# Altium integrated library Linear Technology PMIC-Switching Reg LTC1174-LTC3901.IntLib: 2647 symbols (part 242 of 310)
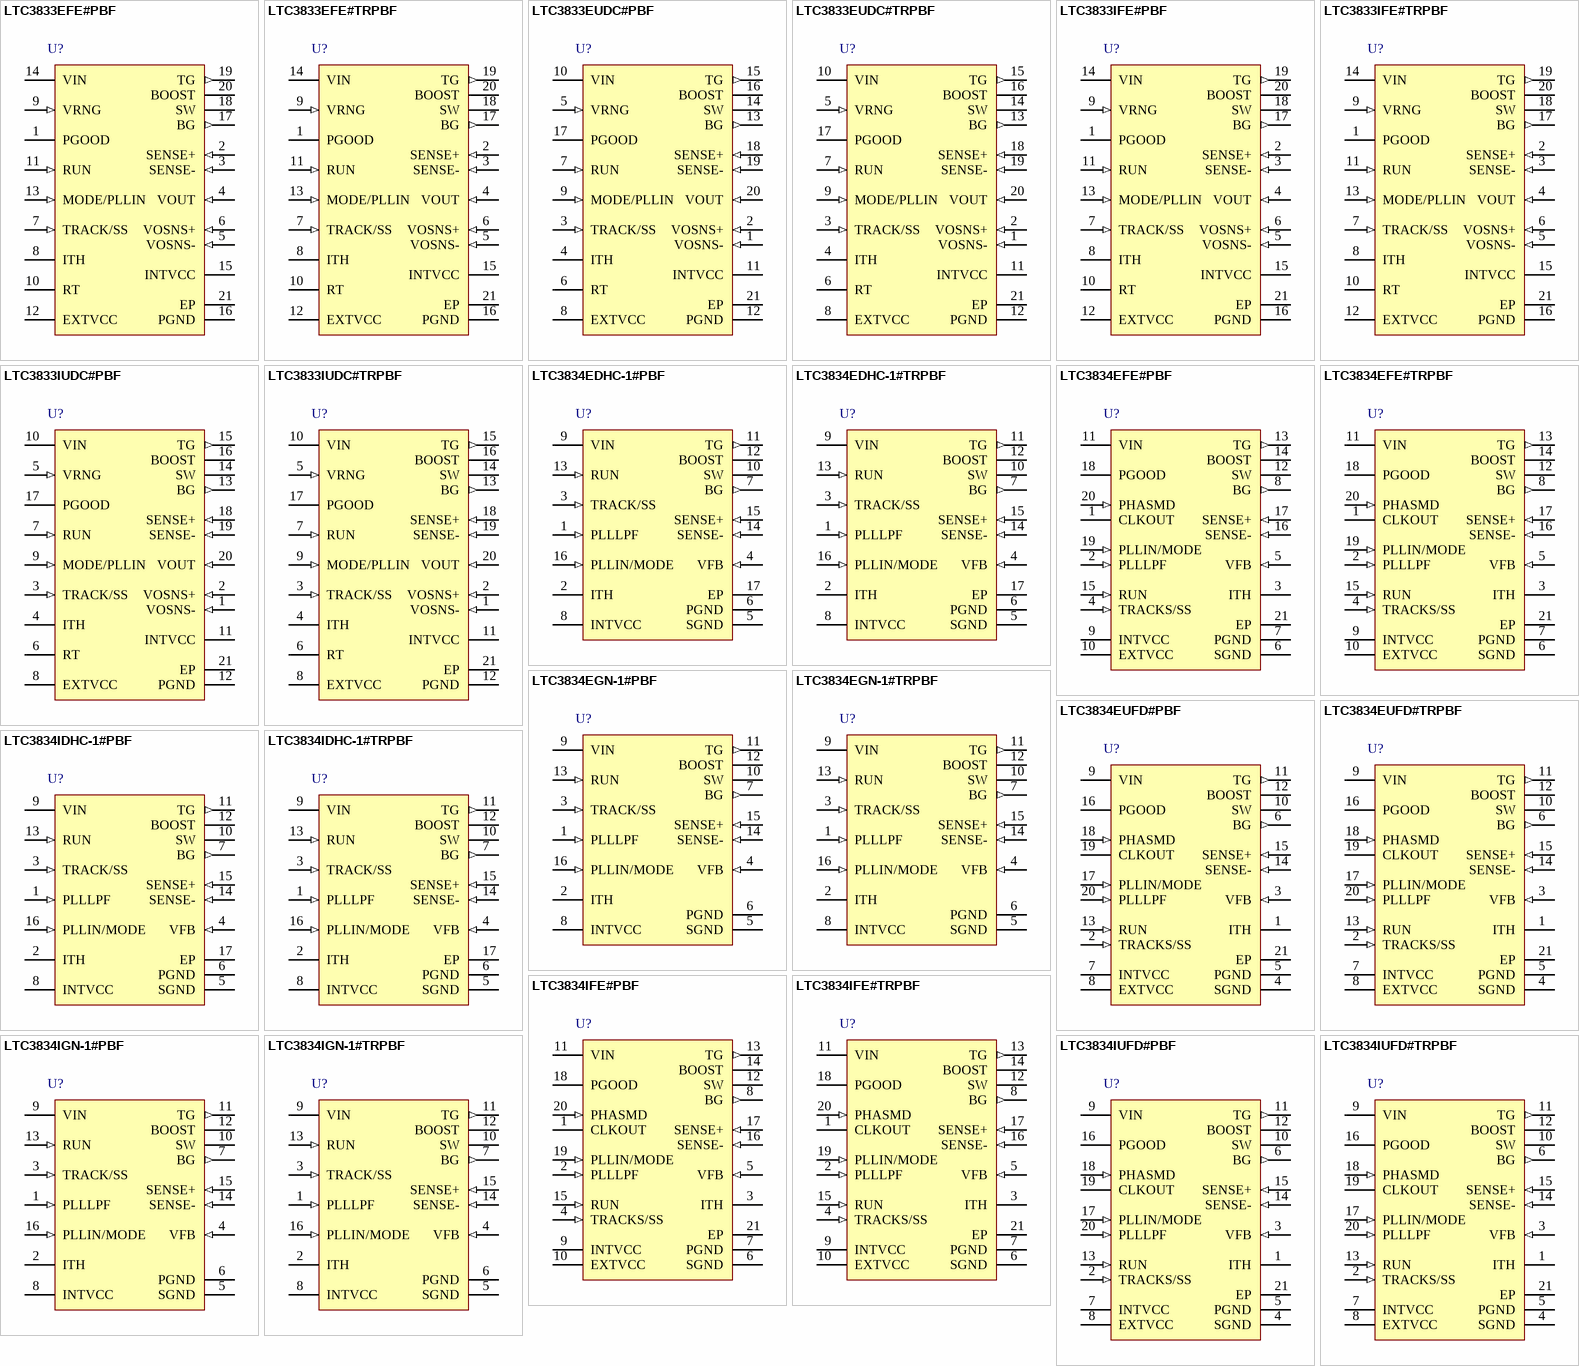
[diagram p259: symbols LTC3833EFE#PBF to LTC3834IUFD#TRPBF]

## LTC3833IFE#TRPBF
designator U?
Fast, Accurate Step-Down DC/DC Controller with Differential Output Sensing, 20-pin SOP (FE-20-EPV-CB), -40 to 125 degC, Pb-Free, Tape and Reel; Manufacturer: Linear Technology; PartNumber: LTC3833IFE#TRPBF; Number of Outputs: 1; PackageReference: FE-20; PackageDescription: 20-Pin Plastic TSSOP, Body 6.5 x 4.4 mm, Pitch 0.65 mm; Supplier 1: Digi-Key; Supplier Part Number 1: LTC3833IFE#TRPBF-ND; RoHS: TRUE
footprint LT-FE-20-EPV-CB_N (SOP, 20-Leads, Body 6.6x4.5mm, Pitch 0.65mm, Thermal Pad 3.86x2.74mm, IPC Medium Density)
footprint LT-FE-20-EPV-CB_L (SOP, 20-Leads, Body 6.6x4.5mm, Pitch 0.65mm, Thermal Pad 3.86x2.74mm, IPC High Density)
footprint LT-FE-20-EPV-CB_M (SOP, 20-Leads, Body 6.6x4.5mm, Pitch 0.65mm, Thermal Pad 3.86x2.74mm, IPC Low Density)
pins: 1 PGOOD (oc) "Power Good Indicator Output. This open-drain logic output is pulled to ground when the output voltage is outside of a +/-7.5% window around the regulation point.", 2 SENSE+ (in) "Differential Current Sensing (+) Input. For RSENSE current sensing, Kelvin (4-wire) connect SENSE+ and SENSE- pins across the sense resistor. For DCR sensing, Kelvin connect SENSE+ and SENSE- pins across the sense filter (See Datasheet)", 3 SENSE- (in) "Differential Current Sensing (-) Input. For RSENSE current sensing, Kelvin (4-wire) connect SENSE+ and SENSE- pins across the sense resistor. For DCR sensing, Kelvin connect SENSE+ and SENSE- pins across the sense filter (See Datasheet)", 4 VOUT (in) "Output voltage sense for adjusting the TG on-time for constant frequency operation. Tying this pin to the local output (instead of remote output) is recommended for most applications. This pin can be programmed as needed for (See Datasheet)", 5 VOSNS- (in) "Differential Output Sensing (-) Input. Connect this pin to the negative terminal of the output capacitor. There is a bias current of 35uA (typical) flowing out of this pin.", 6 VOSNS+ (in) "Differential Output Sensing (+) Input. Connect this pin to the feedback resistor divider between the positive and negative output capacitor terminals. In nominal operation the LTC3833 will regulate the differential output (See Datasheet)", 7 TRACK/SS (in) "External Tracking and Soft-Start Input. The LTC3833 regulates the differential feedback voltage (VOSNS + - VOSNS -) to the smaller of 0.6V or the voltage on the TRACK/SS pin. An internal 1.0uA pull-up current source is (See Datasheet)", 8 ITH "Current Control Voltage and Switching Regulator Compensation Point. The current sense threshold increases with this control voltage which ranges from 0V to 2.4V.", 9 VRNG (in) "Current Sense Voltage Range Input. The maximum allowed sense voltage between SENSE+ and SENSE- is equal to 0.05 • VRNG. If VRNG is tied to SGND, the device operates with a maximum sense voltage of 30mV. If VRNG is tied t(See Datasheet)", 10 RT "Switching Frequency Programming Pin. Connect an external resistor from RT to signal ground to program the switching frequency between 200kHz and 2MHz. An external clock applied to MODE/PLLIN must be within +/-30% of this (See Datasheet)", 11 RUN (in) "Digital Run Control Input. RUN self biases high with an internal 1.3uA pull-up. Forcing RUN below 1.2V turns off TG and BG. Taking RUN below 0.75V shuts down all bias and places the LTC3833 into micropower shutdown mode of (See Datasheet)", 12 EXTVCC (power) "External VCC Input. When EXTVCC exceeds 4.6V, an internal switch connects this pin to INTVCC and shuts down the internal regulator so that the controller and gate drive power is drawn from EXTVCC. EXTVCC should not exceed (See Datasheet)", 13 MODE/PLLIN (in) "External Clock Synchronization Input and/or Forced Continuous Mode Input. When an external clock is applied to this pin, the rising TG signal will be synchronized with the rising edge of the external clock. Additionally, (See Datasheet)", 14 VIN (power) "Main Supply Input. The supply voltage can range from 4.5V to 38V. For increased noise immunity decouple this pin to signal ground with an RC filter. The voltage on this pin is also used to adjust the TG on-time in order to (See Datasheet)", 15 INTVCC (power) "Internal 5.3V Regulator Output. The driver and control circuits are powered from this voltage. Decouple this pin to power ground with a minimum of 4.7uF ceramic capacitor (CVCC). The anode of the Schottky diode, DB, connects (See Datasheet)", 16 PGND (power) "Power Ground Connection. Connect this pin as close as practical to the source of the bottom N-channel power MOSFET, the (-) terminal of CVCC and the (-) terminal of CIN.", 17 BG (out) "Bottom Gate Drive Output. This pin drives the gate of the bottom N-channel power MOSFET between INTVCC and power ground.", 18 SW "Switch Node Connection. The (-) terminal of the bootstrap capacitor, CB, connects to this node. This pin swings from a diode voltage below ground up to VIN.", 19 TG (out) "Top Gate Drive Output. This pin drives the gate of the top N-Channel power MOSFET between VSW and VBOOST .", 20 BOOST "Boosted Driver Supply Connection. The (+) terminal of the bootstrap capacitor, CB, as well as the cathode of the Schottky diode, DB, connects to this node. This node swings from INTVCC - VSCHOTTKY to VIN + INTVCC - VSCHOTTKY.", 21 EP (power) "Signal Ground Connection. The SGND exposed pad must be soldered to the circuit board for electrical contact and rated thermal performance. All small-signal components should be connected to the signal ground. Connect signal (See Datasheet)"

## LTC3833IUDC#PBF
designator U?
Fast, Accurate Step-Down DC/DC Controller with Differential Output Sensing, 20-pin QFN (UDC-20), -40 to 125 degC, Pb-Free; Manufacturer: Linear Technology; PartNumber: LTC3833IUDC#PBF; Number of Outputs: 1; PackageReference: UDC20; PackageDescription: 20-Pin Plastic QFN, Body 3 x 4 mm, Pitch 0.5 mm; Supplier 1: Digi-Key; Supplier Part Number 1: LTC3833IUDC#PBF-ND; RoHS: TRUE
footprint LT-UDC-20_N (QFN, 20-Leads, Body 4.1x3.1mm, Pitch 0.5mm, Thermal Pad 2.65x1.65mm, IPC Medium Density)
footprint LT-UDC-20_L (QFN, 20-Leads, Body 4.1x3.1mm, Pitch 0.5mm, Thermal Pad 2.65x1.65mm, IPC High Density)
footprint LT-UDC-20_M (QFN, 20-Leads, Body 4.1x3.1mm, Pitch 0.5mm, Thermal Pad 2.65x1.65mm, IPC Low Density)
pins: 1 VOSNS- (in) "Differential Output Sensing (-) Input. Connect this pin to the negative terminal of the output capacitor. There is a bias current of 35uA (typical) flowing out of this pin.", 2 VOSNS+ (in) "Differential Output Sensing (+) Input. Connect this pin to the feedback resistor divider between the positive and negative output capacitor terminals. In nominal operation the LTC3833 will regulate the differential output (See Datasheet)", 3 TRACK/SS (in) "External Tracking and Soft-Start Input. The LTC3833 regulates the differential feedback voltage (VOSNS + - VOSNS -) to the smaller of 0.6V or the voltage on the TRACK/SS pin. An internal 1.0uA pull-up current source is (See Datasheet)", 4 ITH "Current Control Voltage and Switching Regulator Compensation Point. The current sense threshold increases with this control voltage which ranges from 0V to 2.4V.", 5 VRNG (in) "Current Sense Voltage Range Input. The maximum allowed sense voltage between SENSE+ and SENSE- is equal to 0.05 • VRNG. If VRNG is tied to SGND, the device operates with a maximum sense voltage of 30mV. If VRNG is tied t(See Datasheet)", 6 RT "Switching Frequency Programming Pin. Connect an external resistor from RT to signal ground to program the switching frequency between 200kHz and 2MHz. An external clock applied to MODE/PLLIN must be within +/-30% of this (See Datasheet)", 7 RUN (in) "Digital Run Control Input. RUN self biases high with an internal 1.3uA pull-up. Forcing RUN below 1.2V turns off TG and BG. Taking RUN below 0.75V shuts down all bias and places the LTC3833 into micropower shutdown mode of (See Datasheet)", 8 EXTVCC (power) "External VCC Input. When EXTVCC exceeds 4.6V, an internal switch connects this pin to INTVCC and shuts down the internal regulator so that the controller and gate drive power is drawn from EXTVCC. EXTVCC should not exceed (See Datasheet)", 9 MODE/PLLIN (in) "External Clock Synchronization Input and/or Forced Continuous Mode Input. When an external clock is applied to this pin, the rising TG signal will be synchronized with the rising edge of the external clock. Additionally, (See Datasheet)", 10 VIN (power) "Main Supply Input. The supply voltage can range from 4.5V to 38V. For increased noise immunity decouple this pin to signal ground with an RC filter. The voltage on this pin is also used to adjust the TG on-time in order to (See Datasheet)", 11 INTVCC (power) "Internal 5.3V Regulator Output. The driver and control circuits are powered from this voltage. Decouple this pin to power ground with a minimum of 4.7uF ceramic capacitor (CVCC). The anode of the Schottky diode, DB, connects (See Datasheet)", 12 PGND (power) "Power Ground Connection. Connect this pin as close as practical to the source of the bottom N-channel power MOSFET, the (-) terminal of CVCC and the (-) terminal of CIN.", 13 BG (out) "Bottom Gate Drive Output. This pin drives the gate of the bottom N-channel power MOSFET between INTVCC and power ground.", 14 SW "Switch Node Connection. The (-) terminal of the bootstrap capacitor, CB, connects to this node. This pin swings from a diode voltage below ground up to VIN.", 15 TG (out) "Top Gate Drive Output. This pin drives the gate of the top N-Channel power MOSFET between VSW and VBOOST .", 16 BOOST "Boosted Driver Supply Connection. The (+) terminal of the bootstrap capacitor, CB, as well as the cathode of the Schottky diode, DB, connects to this node. This node swings from INTVCC - VSCHOTTKY to VIN + INTVCC - VSCHOTTKY.", 17 PGOOD (oc) "Power Good Indicator Output. This open-drain logic output is pulled to ground when the output voltage is outside of a +/-7.5% window around the regulation point.", 18 SENSE+ (in) "Differential Current Sensing (+) Input. For RSENSE current sensing, Kelvin (4-wire) connect SENSE+ and SENSE- pins across the sense resistor. For DCR sensing, Kelvin connect SENSE+ and SENSE- pins across the sense filter (See Datasheet)", 19 SENSE- (in) "Differential Current Sensing (-) Input. For RSENSE current sensing, Kelvin (4-wire) connect SENSE+ and SENSE- pins across the sense resistor. For DCR sensing, Kelvin connect SENSE+ and SENSE- pins across the sense filter (See Datasheet)", 20 VOUT (in) "Output voltage sense for adjusting the TG on-time for constant frequency operation. Tying this pin to the local output (instead of remote output) is recommended for most applications. This pin can be programmed as needed for (See Datasheet)", 21 EP (power) "Signal Ground Connection. The SGND exposed pad must be soldered to the circuit board for electrical contact and rated thermal performance. All small-signal components should be connected to the signal ground. Connect signal (See Datasheet)"

## LTC3833IUDC#TRPBF
designator U?
Fast, Accurate Step-Down DC/DC Controller with Differential Output Sensing, 20-pin QFN (UDC-20), -40 to 125 degC, Pb-Free, Tape and Reel; Manufacturer: Linear Technology; PartNumber: LTC3833IUDC#TRPBF; Number of Outputs: 1; PackageReference: UDC20; PackageDescription: 20-Pin Plastic QFN, Body 3 x 4 mm, Pitch 0.5 mm; Supplier 1: Digi-Key; Supplier Part Number 1: LTC3833IUDC#TRPBF-ND; RoHS: TRUE
footprint LT-UDC-20_N (QFN, 20-Leads, Body 4.1x3.1mm, Pitch 0.5mm, Thermal Pad 2.65x1.65mm, IPC Medium Density)
footprint LT-UDC-20_L (QFN, 20-Leads, Body 4.1x3.1mm, Pitch 0.5mm, Thermal Pad 2.65x1.65mm, IPC High Density)
footprint LT-UDC-20_M (QFN, 20-Leads, Body 4.1x3.1mm, Pitch 0.5mm, Thermal Pad 2.65x1.65mm, IPC Low Density)
pins: 1 VOSNS- (in) "Differential Output Sensing (-) Input. Connect this pin to the negative terminal of the output capacitor. There is a bias current of 35uA (typical) flowing out of this pin.", 2 VOSNS+ (in) "Differential Output Sensing (+) Input. Connect this pin to the feedback resistor divider between the positive and negative output capacitor terminals. In nominal operation the LTC3833 will regulate the differential output (See Datasheet)", 3 TRACK/SS (in) "External Tracking and Soft-Start Input. The LTC3833 regulates the differential feedback voltage (VOSNS + - VOSNS -) to the smaller of 0.6V or the voltage on the TRACK/SS pin. An internal 1.0uA pull-up current source is (See Datasheet)", 4 ITH "Current Control Voltage and Switching Regulator Compensation Point. The current sense threshold increases with this control voltage which ranges from 0V to 2.4V.", 5 VRNG (in) "Current Sense Voltage Range Input. The maximum allowed sense voltage between SENSE+ and SENSE- is equal to 0.05 • VRNG. If VRNG is tied to SGND, the device operates with a maximum sense voltage of 30mV. If VRNG is tied t(See Datasheet)", 6 RT "Switching Frequency Programming Pin. Connect an external resistor from RT to signal ground to program the switching frequency between 200kHz and 2MHz. An external clock applied to MODE/PLLIN must be within +/-30% of this (See Datasheet)", 7 RUN (in) "Digital Run Control Input. RUN self biases high with an internal 1.3uA pull-up. Forcing RUN below 1.2V turns off TG and BG. Taking RUN below 0.75V shuts down all bias and places the LTC3833 into micropower shutdown mode of (See Datasheet)", 8 EXTVCC (power) "External VCC Input. When EXTVCC exceeds 4.6V, an internal switch connects this pin to INTVCC and shuts down the internal regulator so that the controller and gate drive power is drawn from EXTVCC. EXTVCC should not exceed (See Datasheet)", 9 MODE/PLLIN (in) "External Clock Synchronization Input and/or Forced Continuous Mode Input. When an external clock is applied to this pin, the rising TG signal will be synchronized with the rising edge of the external clock. Additionally, (See Datasheet)", 10 VIN (power) "Main Supply Input. The supply voltage can range from 4.5V to 38V. For increased noise immunity decouple this pin to signal ground with an RC filter. The voltage on this pin is also used to adjust the TG on-time in order to (See Datasheet)", 11 INTVCC (power) "Internal 5.3V Regulator Output. The driver and control circuits are powered from this voltage. Decouple this pin to power ground with a minimum of 4.7uF ceramic capacitor (CVCC). The anode of the Schottky diode, DB, connects (See Datasheet)", 12 PGND (power) "Power Ground Connection. Connect this pin as close as practical to the source of the bottom N-channel power MOSFET, the (-) terminal of CVCC and the (-) terminal of CIN.", 13 BG (out) "Bottom Gate Drive Output. This pin drives the gate of the bottom N-channel power MOSFET between INTVCC and power ground.", 14 SW "Switch Node Connection. The (-) terminal of the bootstrap capacitor, CB, connects to this node. This pin swings from a diode voltage below ground up to VIN.", 15 TG (out) "Top Gate Drive Output. This pin drives the gate of the top N-Channel power MOSFET between VSW and VBOOST .", 16 BOOST "Boosted Driver Supply Connection. The (+) terminal of the bootstrap capacitor, CB, as well as the cathode of the Schottky diode, DB, connects to this node. This node swings from INTVCC - VSCHOTTKY to VIN + INTVCC - VSCHOTTKY.", 17 PGOOD (oc) "Power Good Indicator Output. This open-drain logic output is pulled to ground when the output voltage is outside of a +/-7.5% window around the regulation point.", 18 SENSE+ (in) "Differential Current Sensing (+) Input. For RSENSE current sensing, Kelvin (4-wire) connect SENSE+ and SENSE- pins across the sense resistor. For DCR sensing, Kelvin connect SENSE+ and SENSE- pins across the sense filter (See Datasheet)", 19 SENSE- (in) "Differential Current Sensing (-) Input. For RSENSE current sensing, Kelvin (4-wire) connect SENSE+ and SENSE- pins across the sense resistor. For DCR sensing, Kelvin connect SENSE+ and SENSE- pins across the sense filter (See Datasheet)", 20 VOUT (in) "Output voltage sense for adjusting the TG on-time for constant frequency operation. Tying this pin to the local output (instead of remote output) is recommended for most applications. This pin can be programmed as needed for (See Datasheet)", 21 EP (power) "Signal Ground Connection. The SGND exposed pad must be soldered to the circuit board for electrical contact and rated thermal performance. All small-signal components should be connected to the signal ground. Connect signal (See Datasheet)"

## LTC3834EDHC-1#PBF
designator U?
30 uA IQ Synchronous Step-Down Controller, 16-pin SON (DHC-16), -40 to 85 degC, Pb-Free; Manufacturer: Linear Technology; PartNumber: LTC3834EDHC-1#PBF; Number of Outputs: 1; PackageReference: DHC-16; PackageDescription: 16-Pin Plastic DFN, Body 5 x 3 mm, Pitch 0.5 mm; Supplier 1: Digi-Key; Supplier Part Number 1: LTC3834EDHC-1#PBF-ND; RoHS: TRUE; Code_JEDEC: MO-229
footprint LT-DHC-16_V (SON, 16-Leads, Body 5x3mm, Pitch 0.5mm, Thermal Pad 4.4X1.65mm)
pins: 1 PLLLPF (in) "The phase-locked loop’s lowpass filter is tied to this pin when synchronizing to an external clock. Alternatively, tie this pin to GND, INTVCC or leave floating to select 250kHz, 530kHz or 400kHz switching frequency.", 2 ITH "Error Amplifier Outputs and Switching Regulator Compensation Points. The current comparator trip point increases with this control voltage.", 3 TRACK/SS (in) "External Tracking and Soft-Start Input.", 4 VFB (in) "Receives the remotely sensed feedback voltage from an external resistive divider across the output.", 5 SGND (power) "Small Signal Ground. Must be routed separately from high current grounds to the common (-) terminals of the input capacitor.", 6 PGND (power) "Driver Power Ground. Connects to the source of bottom (synchronous) N-channel MOSFET, anode of the Schottky rectifier and the (-) terminal of CIN.", 7 BG (out) "High Current Gate Drive for Bottom (Synchronous) N-Channel MOSFET. Voltage swing at this pin is from ground to INTVCC.", 8 INTVCC (power) "Output of the Internal Linear Low Dropout Regulator. The driver and control circuits are powered from this voltage source. Must be decoupled to power ground with a minimum of 4.7uF tantalum or ceramic capacitor.", 9 VIN (power) "Main Supply Pin. A bypass capacitor should be tied between this pin and the signal ground pin.", 10 SW "Switch Node Connections to Inductor. Voltage swing at this pin is from a Schottky diode (external) voltage drop below ground to VIN.", 11 TG (out) "High Current Gate Drive for Top Nchannel MOSFET. These are the outputs of floating drivers with a voltage swing equal to INTVCC - 0.5V superimposed on the switch node voltage SW.", 12 BOOST "Bootstrapped Supply to the Top Side Floating Driver. A capacitor is connected between the BOOST and SW pins and a Schottky diode is tied between the BOOST and INTVCC pins. Voltage swing at the BOOST pin is from INTVCC to (See Datasheet)", 13 RUN (in) "Digital Run Control Input for Controller.", 14 SENSE- (in) "The (-) Input to the Differential Current Comparator.", 15 SENSE+ (in) "The (+) Input to the Differential Current Comparator. The ITH pin voltage and controlled offsets between the SENSE- and SENSE+ pins in conjunction with RSENSE set the current trip threshold.", 16 PLLIN/MODE (in) "External Synchronization Input to Phase Detector and Forced Continuous Control Input. When an external clock is applied to this pin, the phase-locked loop will force the rising TG signal to be synchronized with the rising (See Datasheet)", 17 EP (power) "SGND. Must be soldered to PCB."

## LTC3834EDHC-1#TRPBF
designator U?
30 uA IQ Synchronous Step-Down Controller, 16-pin SON (DHC-16), -40 to 85 degC, Pb-Free, Tape and Reel; Manufacturer: Linear Technology; PartNumber: LTC3834EDHC-1#TRPBF; Number of Outputs: 1; PackageReference: DHC-16; PackageDescription: 16-Pin Plastic DFN, Body 5 x 3 mm, Pitch 0.5 mm; Supplier 1: Digi-Key; Supplier Part Number 1: LTC3834EDHC-1#TRPBF-ND; RoHS: TRUE; Code_JEDEC: MO-229
footprint LT-DHC-16_V (SON, 16-Leads, Body 5x3mm, Pitch 0.5mm, Thermal Pad 4.4X1.65mm)
pins: 1 PLLLPF (in) "The phase-locked loop’s lowpass filter is tied to this pin when synchronizing to an external clock. Alternatively, tie this pin to GND, INTVCC or leave floating to select 250kHz, 530kHz or 400kHz switching frequency.", 2 ITH "Error Amplifier Outputs and Switching Regulator Compensation Points. The current comparator trip point increases with this control voltage.", 3 TRACK/SS (in) "External Tracking and Soft-Start Input.", 4 VFB (in) "Receives the remotely sensed feedback voltage from an external resistive divider across the output.", 5 SGND (power) "Small Signal Ground. Must be routed separately from high current grounds to the common (-) terminals of the input capacitor.", 6 PGND (power) "Driver Power Ground. Connects to the source of bottom (synchronous) N-channel MOSFET, anode of the Schottky rectifier and the (-) terminal of CIN.", 7 BG (out) "High Current Gate Drive for Bottom (Synchronous) N-Channel MOSFET. Voltage swing at this pin is from ground to INTVCC.", 8 INTVCC (power) "Output of the Internal Linear Low Dropout Regulator. The driver and control circuits are powered from this voltage source. Must be decoupled to power ground with a minimum of 4.7uF tantalum or ceramic capacitor.", 9 VIN (power) "Main Supply Pin. A bypass capacitor should be tied between this pin and the signal ground pin.", 10 SW "Switch Node Connections to Inductor. Voltage swing at this pin is from a Schottky diode (external) voltage drop below ground to VIN.", 11 TG (out) "High Current Gate Drive for Top Nchannel MOSFET. These are the outputs of floating drivers with a voltage swing equal to INTVCC - 0.5V superimposed on the switch node voltage SW.", 12 BOOST "Bootstrapped Supply to the Top Side Floating Driver. A capacitor is connected between the BOOST and SW pins and a Schottky diode is tied between the BOOST and INTVCC pins. Voltage swing at the BOOST pin is from INTVCC to (See Datasheet)", 13 RUN (in) "Digital Run Control Input for Controller.", 14 SENSE- (in) "The (-) Input to the Differential Current Comparator.", 15 SENSE+ (in) "The (+) Input to the Differential Current Comparator. The ITH pin voltage and controlled offsets between the SENSE- and SENSE+ pins in conjunction with RSENSE set the current trip threshold.", 16 PLLIN/MODE (in) "External Synchronization Input to Phase Detector and Forced Continuous Control Input. When an external clock is applied to this pin, the phase-locked loop will force the rising TG signal to be synchronized with the rising (See Datasheet)", 17 EP (power) "SGND. Must be soldered to PCB."

## LTC3834EFE#PBF
designator U?
30 uA IQ Synchronous Step-Down Controller, 20-pin SOP (FE-20-EPV-CB), -40 to 85 degC, Pb-Free; Manufacturer: Linear Technology; PartNumber: LTC3834EFE#PBF; Number of Outputs: 1; PackageReference: FE-20; PackageDescription: 20-Pin Plastic TSSOP, Body 6.5 x 4.4 mm, Pitch 0.65 mm; Supplier 1: Digi-Key; Supplier Part Number 1: LTC3834EFE#PBF-ND; RoHS: TRUE
footprint LT-FE-20-EPV-CB_N (SOP, 20-Leads, Body 6.6x4.5mm, Pitch 0.65mm, Thermal Pad 3.86x2.74mm, IPC Medium Density)
footprint LT-FE-20-EPV-CB_L (SOP, 20-Leads, Body 6.6x4.5mm, Pitch 0.65mm, Thermal Pad 3.86x2.74mm, IPC High Density)
footprint LT-FE-20-EPV-CB_M (SOP, 20-Leads, Body 6.6x4.5mm, Pitch 0.65mm, Thermal Pad 3.86x2.74mm, IPC Low Density)
pins: 1 CLKOUT (oc) "Open-Drain Output Clock Signal available to daisy-chain other controller ICs for additional MOSFET driver stages/phases.", 2 PLLLPF (in) "The phase-locked loop’s lowpass filter is tied to this pin when synchronizing to an external clock. Alternatively, tie this pin to GND, VIN or leave floating to select 250kHz, 530kHz or 400kHz switching frequency.", 3 ITH "Error Amplifier Outputs and Switching Regulator Compensation Points. The current comparator trip point increases with this control voltage.", 4 TRACKS/SS (in) "External Tracking and Soft-Start Input.", 5 VFB (in) "Receives the remotely sensed feedback voltage from an external resistive divider across the output.", 6 SGND (power) "Small-Signal Ground. Must be routed separately from high current grounds to the common (-) terminals of the input capacitor.", 7 PGND (power) "Driver Power Ground. Connects to the source of bottom (synchronous) N-channel MOSFET, anode of the Schottky rectifi er and the (-) terminal of CIN.", 8 BG (out) "High Current Gate Drive for Bottom (Synchronous) N-Channel MOSFET. Voltage swing at this pin is from ground to INTVCC.", 9 INTVCC (power) "Output of the Internal Linear Low Dropout Regulator.", 10 EXTVCC (power) "External Power Input to an Internal LDO Connected to INTVCC. This LDO supplies VCC power, bypassing the internal LDO powered from VIN whenever EXTVCC is higher than 4.7V. See EXTVCC Connection in the Applications Information (See Datasheet)", 11 VIN (power) "Main Supply Pin. A bypass capacitor should be tied between this pin and the signal ground pin.", 12 SW "Switch Node Connections to Inductor. Voltage swing at this pin is from a Schottky diode (external) voltage drop below ground to VIN.", 13 TG (out) "High Current Gate Drive for Top N-Channel MOSFET. These are the outputs of floating drivers with a voltage swing equal to INTVCC - 0.5V superimposed on the switch node voltage SW.", 14 BOOST "Bootstrapped Supply to the Topside Floating Driver. A capacitor is connected between the BOOST and SW pins and a Schottky diode is tied between the BOOST and INTVCC pins. Voltage swing at the BOOST pin is from INTVCC to (VIN (See Datasheet)", 15 RUN (in) "Digital Run Control Input for Controller.", 16 SENSE- (in) "The (-) Input to the Differential Current Comparator.", 17 SENSE+ (in) "The (+) Input to the Differential Current Comparator. The ITH pin voltage and controlled offsets between the SENSE- and SENSE+ pins in conjunction with RSENSE set the current trip threshold.", 18 PGOOD (oc) "Open-Drain Logic Output. PGOOD is pulled to ground when the voltage on the VFB pin is not within +/-10% of its set point.", 19 PLLIN/MODE (in) "External Synchronization Input to Phase Detector and Forced Continuous Control Input.", 20 PHASMD (in) "Control Input to Phase Selector which determines the phase relationships between TG and the CLKOUT signal.", 21 EP (power)

## LTC3834EFE#TRPBF
designator U?
30 uA IQ Synchronous Step-Down Controller, 20-pin SOP (FE-20-EPV-CB), -40 to 85 degC, Pb-Free, Tape and Reel; Manufacturer: Linear Technology; PartNumber: LTC3834EFE#TRPBF; Number of Outputs: 1; PackageReference: FE-20; PackageDescription: 20-Pin Plastic TSSOP, Body 6.5 x 4.4 mm, Pitch 0.65 mm; Supplier 1: Digi-Key; Supplier Part Number 1: LTC3834EFE#TRPBF-ND; RoHS: TRUE
footprint LT-FE-20-EPV-CB_N (SOP, 20-Leads, Body 6.6x4.5mm, Pitch 0.65mm, Thermal Pad 3.86x2.74mm, IPC Medium Density)
footprint LT-FE-20-EPV-CB_L (SOP, 20-Leads, Body 6.6x4.5mm, Pitch 0.65mm, Thermal Pad 3.86x2.74mm, IPC High Density)
footprint LT-FE-20-EPV-CB_M (SOP, 20-Leads, Body 6.6x4.5mm, Pitch 0.65mm, Thermal Pad 3.86x2.74mm, IPC Low Density)
pins: 1 CLKOUT (oc) "Open-Drain Output Clock Signal available to daisy-chain other controller ICs for additional MOSFET driver stages/phases.", 2 PLLLPF (in) "The phase-locked loop’s lowpass filter is tied to this pin when synchronizing to an external clock. Alternatively, tie this pin to GND, VIN or leave floating to select 250kHz, 530kHz or 400kHz switching frequency.", 3 ITH "Error Amplifier Outputs and Switching Regulator Compensation Points. The current comparator trip point increases with this control voltage.", 4 TRACKS/SS (in) "External Tracking and Soft-Start Input.", 5 VFB (in) "Receives the remotely sensed feedback voltage from an external resistive divider across the output.", 6 SGND (power) "Small-Signal Ground. Must be routed separately from high current grounds to the common (-) terminals of the input capacitor.", 7 PGND (power) "Driver Power Ground. Connects to the source of bottom (synchronous) N-channel MOSFET, anode of the Schottky rectifi er and the (-) terminal of CIN.", 8 BG (out) "High Current Gate Drive for Bottom (Synchronous) N-Channel MOSFET. Voltage swing at this pin is from ground to INTVCC.", 9 INTVCC (power) "Output of the Internal Linear Low Dropout Regulator.", 10 EXTVCC (power) "External Power Input to an Internal LDO Connected to INTVCC. This LDO supplies VCC power, bypassing the internal LDO powered from VIN whenever EXTVCC is higher than 4.7V. See EXTVCC Connection in the Applications Information (See Datasheet)", 11 VIN (power) "Main Supply Pin. A bypass capacitor should be tied between this pin and the signal ground pin.", 12 SW "Switch Node Connections to Inductor. Voltage swing at this pin is from a Schottky diode (external) voltage drop below ground to VIN.", 13 TG (out) "High Current Gate Drive for Top N-Channel MOSFET. These are the outputs of floating drivers with a voltage swing equal to INTVCC - 0.5V superimposed on the switch node voltage SW.", 14 BOOST "Bootstrapped Supply to the Topside Floating Driver. A capacitor is connected between the BOOST and SW pins and a Schottky diode is tied between the BOOST and INTVCC pins. Voltage swing at the BOOST pin is from INTVCC to (VIN (See Datasheet)", 15 RUN (in) "Digital Run Control Input for Controller.", 16 SENSE- (in) "The (-) Input to the Differential Current Comparator.", 17 SENSE+ (in) "The (+) Input to the Differential Current Comparator. The ITH pin voltage and controlled offsets between the SENSE- and SENSE+ pins in conjunction with RSENSE set the current trip threshold.", 18 PGOOD (oc) "Open-Drain Logic Output. PGOOD is pulled to ground when the voltage on the VFB pin is not within +/-10% of its set point.", 19 PLLIN/MODE (in) "External Synchronization Input to Phase Detector and Forced Continuous Control Input.", 20 PHASMD (in) "Control Input to Phase Selector which determines the phase relationships between TG and the CLKOUT signal.", 21 EP (power)

## LTC3834EGN-1#PBF
designator U?
30 uA IQ Synchronous Step-Down Controller, 16-pin SOP (GN-16), -40 to 85 degC, Pb-Free; Manufacturer: Linear Technology; PartNumber: LTC3834EGN-1#PBF; Number of Outputs: 1; PackageReference: GN-16; PackageDescription: 16-Pin Plastic SSOP, Body 4.9 x 3.9 mm, Pitch 0.635 mm; Supplier 1: Digi-Key; Supplier Part Number 1: LTC3834EGN-1#PBF-ND; RoHS: TRUE
footprint LT-GN-16_N (SOP, 16-Leads, Body 5x4mm, Pitch 0.635mm, IPC Medium Density)
footprint LT-GN-16_L (SOP, 16-Leads, Body 5x4mm, Pitch 0.635mm, IPC High Density)
footprint LT-GN-16_M (SOP, 16-Leads, Body 5x4mm, Pitch 0.635mm, IPC Low Density)
pins: 1 PLLLPF (in), 2 ITH, 3 TRACK/SS (in), 4 VFB (in) "Receives the remotely sensed feedback voltage from an external resistive divider across the output.", 5 SGND (power) "Small-Signal Ground. Must be routed separately from high current grounds to the common (-) terminals of the input capacitor", 6 PGND (power), 7 BG (out) "High Current Gate Drive for Bottom (Synchronous) N-Channel MOSFET. Voltage swing at this pin is from ground to INTVCC.", 8 INTVCC (power), 9 VIN (power) "Main Supply Pin. A bypass capacitor should be tied between this pin and the signal ground pin.", 10 SW "Switch Node Connections to Inductor. Voltage swing at this pin is from a Schottky diode (external) voltage drop below ground to VIN", 11 TG (out), 12 BOOST "Bootstrapped Supply to the Topside Floating Driver. A capacitor is connected between the BOOST and SW pins and a Schottky diode is tied between the BOOST and INTVCC pins. Voltage swing at the BOOST pin is from INTVCC to (VIN (See Datasheet)", 13 RUN (in), 14 SENSE- (in) "The (-) Input to the Differential Current Comparator.", 15 SENSE+ (in), 16 PLLIN/MODE (in)

## LTC3834EGN-1#TRPBF
designator U?
30 uA IQ Synchronous Step-Down Controller, 16-pin SOP (GN-16), -40 to 85 degC, Pb-Free, Tape and Reel; Manufacturer: Linear Technology; PartNumber: LTC3834EGN-1#TRPBF; Number of Outputs: 1; PackageReference: GN-16; PackageDescription: 16-Pin Plastic SSOP, Body 4.9 x 3.9 mm, Pitch 0.635 mm; Supplier 1: Digi-Key; Supplier Part Number 1: LTC3834EGN-1#TRPBF-ND; RoHS: TRUE
footprint LT-GN-16_N (SOP, 16-Leads, Body 5x4mm, Pitch 0.635mm, IPC Medium Density)
footprint LT-GN-16_L (SOP, 16-Leads, Body 5x4mm, Pitch 0.635mm, IPC High Density)
footprint LT-GN-16_M (SOP, 16-Leads, Body 5x4mm, Pitch 0.635mm, IPC Low Density)
pins: 1 PLLLPF (in), 2 ITH, 3 TRACK/SS (in), 4 VFB (in) "Receives the remotely sensed feedback voltage from an external resistive divider across the output.", 5 SGND (power) "Small-Signal Ground. Must be routed separately from high current grounds to the common (-) terminals of the input capacitor", 6 PGND (power), 7 BG (out) "High Current Gate Drive for Bottom (Synchronous) N-Channel MOSFET. Voltage swing at this pin is from ground to INTVCC.", 8 INTVCC (power), 9 VIN (power) "Main Supply Pin. A bypass capacitor should be tied between this pin and the signal ground pin.", 10 SW "Switch Node Connections to Inductor. Voltage swing at this pin is from a Schottky diode (external) voltage drop below ground to VIN", 11 TG (out), 12 BOOST "Bootstrapped Supply to the Topside Floating Driver. A capacitor is connected between the BOOST and SW pins and a Schottky diode is tied between the BOOST and INTVCC pins. Voltage swing at the BOOST pin is from INTVCC to (VIN (See Datasheet)", 13 RUN (in), 14 SENSE- (in) "The (-) Input to the Differential Current Comparator.", 15 SENSE+ (in), 16 PLLIN/MODE (in)

## LTC3834EUFD#PBF
designator U?
30 uA IQ Synchronous Step-Down Controller, 20-pin QFN (UFD-20), -40 to 85 degC, Pb-Free; Manufacturer: Linear Technology; PartNumber: LTC3834EUFD#PBF; Number of Outputs: 1; PackageReference: UFD-20; PackageDescription: 20-Pin Plastic QFN, Body 5 x 4 mm, Pitch 0.5 mm; Supplier 1: Digi-Key; Supplier Part Number 1: LTC3834EUFD#PBF-ND; RoHS: TRUE; Code_JEDEC: MO-220
footprint LT-UFD-20_N (QFN, 20-Leads, Body 5.1x4.1mm, Pitch 0.5mm, Thermal Pad 2.65x3.65mm, IPC Medium Density)
footprint LT-UFD-20_L (QFN, 20-Leads, Body 5.1x4.1mm, Pitch 0.5mm, Thermal Pad 2.65x3.65mm, IPC High Density)
footprint LT-UFD-20_M (QFN, 20-Leads, Body 5.1x4.1mm, Pitch 0.5mm, Thermal Pad 2.65x3.65mm, IPC Low Density)
pins: 1 ITH "Error Amplifier Outputs and Switching Regulator Compensation Points. The current comparator trip point increases with this control voltage.", 2 TRACKS/SS (in) "External Tracking and Soft-Start Input.", 3 VFB (in) "Receives the remotely sensed feedback voltage from an external resistive divider across the output.", 4 SGND (power) "Small-Signal Ground. Must be routed separately from high current grounds to the common (-) terminals of the input capacitor.", 5 PGND (power) "Driver Power Ground. Connects to the source of bottom (synchronous) N-channel MOSFET, anode of the Schottky rectifier and the (-) terminal of CIN.", 6 BG (out) "High Current Gate Drive for Bottom (Synchronous) N-Channel MOSFET. Voltage swing at this pin is from ground to INTVCC.", 7 INTVCC (power) "Output of the Internal Linear Low Dropout Regulator.", 8 EXTVCC (power) "External Power Input to an Internal LDO Connected to INTVCC. This LDO supplies VCC power, bypassing the internal LDO powered from VIN whenever EXTVCC is higher than 4.7V. See EXTVCC Connection in the Applications Information (See Datasheet)", 9 VIN (power) "Main Supply Pin. A bypass capacitor should be tied between this pin and the signal ground pin.", 10 SW "Switch Node Connections to Inductor. Voltage swing at this pin is from a Schottky diode (external) voltage drop below ground to VIN.", 11 TG (out) "High Current Gate Drive for Top N-Channel MOSFET. These are the outputs of floating drivers with a voltage swing equal to INTVCC - 0.5V superimposed on the switch node voltage SW.", 12 BOOST "Bootstrapped Supply to the Topside Floating Driver. A capacitor is connected between the BOOST and SW pins and a Schottky diode is tied between the BOOST and INTVCC pins. Voltage swing at the BOOST pin is from INTVCC to (VIN (See Datasheet)", 13 RUN (in) "Digital Run Control Input for Controller.", 14 SENSE- (in) "The (-) Input to the Differential Current Comparator.", 15 SENSE+ (in) "The (+) Input to the Differential Current Comparator. The ITH pin voltage and controlled offsets between the SENSE- and SENSE+ pins in conjunction with RSENSE set the current trip threshold.", 16 PGOOD (oc) "Open-Drain Logic Output. PGOOD is pulled to ground when the voltage on the VFB pin is not within +/-10% of its set point.", 17 PLLIN/MODE (in) "External Synchronization Input to Phase Detector and Forced Continuous Control Input.", 18 PHASMD (in) "Control Input to Phase Selector which determines the phase relationships between TG and the CLKOUT signal.", 19 CLKOUT (oc) "Open-Drain Output Clock Signal available to daisy-chain other controller ICs for additional MOSFET driver stages/phases.", 20 PLLLPF (in) "The phase-locked loop’s lowpass filter is tied to this pin when synchronizing to an external clock. Alternatively, tie this pin to GND, VIN or leave floating to select 250kHz, 530kHz or 400kHz switching frequency.", 21 EP (power)

## LTC3834EUFD#TRPBF
designator U?
30 uA IQ Synchronous Step-Down Controller, 20-pin QFN (UFD-20), -40 to 85 degC, Pb-Free, Tape and Reel; Manufacturer: Linear Technology; PartNumber: LTC3834EUFD#TRPBF; Number of Outputs: 1; PackageReference: UFD-20; PackageDescription: 20-Pin Plastic QFN, Body 5 x 4 mm, Pitch 0.5 mm; Supplier 1: Digi-Key; Supplier Part Number 1: LTC3834EUFD#TRPBF-ND; RoHS: TRUE; Code_JEDEC: MO-220
footprint LT-UFD-20_N (QFN, 20-Leads, Body 5.1x4.1mm, Pitch 0.5mm, Thermal Pad 2.65x3.65mm, IPC Medium Density)
footprint LT-UFD-20_L (QFN, 20-Leads, Body 5.1x4.1mm, Pitch 0.5mm, Thermal Pad 2.65x3.65mm, IPC High Density)
footprint LT-UFD-20_M (QFN, 20-Leads, Body 5.1x4.1mm, Pitch 0.5mm, Thermal Pad 2.65x3.65mm, IPC Low Density)
pins: 1 ITH "Error Amplifier Outputs and Switching Regulator Compensation Points. The current comparator trip point increases with this control voltage.", 2 TRACKS/SS (in) "External Tracking and Soft-Start Input.", 3 VFB (in) "Receives the remotely sensed feedback voltage from an external resistive divider across the output.", 4 SGND (power) "Small-Signal Ground. Must be routed separately from high current grounds to the common (-) terminals of the input capacitor.", 5 PGND (power) "Driver Power Ground. Connects to the source of bottom (synchronous) N-channel MOSFET, anode of the Schottky rectifier and the (-) terminal of CIN.", 6 BG (out) "High Current Gate Drive for Bottom (Synchronous) N-Channel MOSFET. Voltage swing at this pin is from ground to INTVCC.", 7 INTVCC (power) "Output of the Internal Linear Low Dropout Regulator.", 8 EXTVCC (power) "External Power Input to an Internal LDO Connected to INTVCC. This LDO supplies VCC power, bypassing the internal LDO powered from VIN whenever EXTVCC is higher than 4.7V. See EXTVCC Connection in the Applications Information (See Datasheet)", 9 VIN (power) "Main Supply Pin. A bypass capacitor should be tied between this pin and the signal ground pin.", 10 SW "Switch Node Connections to Inductor. Voltage swing at this pin is from a Schottky diode (external) voltage drop below ground to VIN.", 11 TG (out) "High Current Gate Drive for Top N-Channel MOSFET. These are the outputs of floating drivers with a voltage swing equal to INTVCC - 0.5V superimposed on the switch node voltage SW.", 12 BOOST "Bootstrapped Supply to the Topside Floating Driver. A capacitor is connected between the BOOST and SW pins and a Schottky diode is tied between the BOOST and INTVCC pins. Voltage swing at the BOOST pin is from INTVCC to (VIN (See Datasheet)", 13 RUN (in) "Digital Run Control Input for Controller.", 14 SENSE- (in) "The (-) Input to the Differential Current Comparator.", 15 SENSE+ (in) "The (+) Input to the Differential Current Comparator. The ITH pin voltage and controlled offsets between the SENSE- and SENSE+ pins in conjunction with RSENSE set the current trip threshold.", 16 PGOOD (oc) "Open-Drain Logic Output. PGOOD is pulled to ground when the voltage on the VFB pin is not within +/-10% of its set point.", 17 PLLIN/MODE (in) "External Synchronization Input to Phase Detector and Forced Continuous Control Input.", 18 PHASMD (in) "Control Input to Phase Selector which determines the phase relationships between TG and the CLKOUT signal.", 19 CLKOUT (oc) "Open-Drain Output Clock Signal available to daisy-chain other controller ICs for additional MOSFET driver stages/phases.", 20 PLLLPF (in) "The phase-locked loop’s lowpass filter is tied to this pin when synchronizing to an external clock. Alternatively, tie this pin to GND, VIN or leave floating to select 250kHz, 530kHz or 400kHz switching frequency.", 21 EP (power)

## LTC3834IDHC-1#PBF
designator U?
30 uA IQ Synchronous Step-Down Controller, 16-pin SON (DHC-16), -40 to 85 degC, Pb-Free; Manufacturer: Linear Technology; PartNumber: LTC3834IDHC-1#PBF; Number of Outputs: 1; PackageReference: DHC-16; PackageDescription: 16-Pin Plastic DFN, Body 5 x 3 mm, Pitch 0.5 mm; Supplier 1: Digi-Key; Supplier Part Number 1: LTC3834IDHC-1#PBF-ND; RoHS: TRUE; Code_JEDEC: MO-229
footprint LT-DHC-16_V (SON, 16-Leads, Body 5x3mm, Pitch 0.5mm, Thermal Pad 4.4X1.65mm)
pins: 1 PLLLPF (in) "The phase-locked loop’s lowpass filter is tied to this pin when synchronizing to an external clock. Alternatively, tie this pin to GND, INTVCC or leave floating to select 250kHz, 530kHz or 400kHz switching frequency.", 2 ITH "Error Amplifier Outputs and Switching Regulator Compensation Points. The current comparator trip point increases with this control voltage.", 3 TRACK/SS (in) "External Tracking and Soft-Start Input.", 4 VFB (in) "Receives the remotely sensed feedback voltage from an external resistive divider across the output.", 5 SGND (power) "Small Signal Ground. Must be routed separately from high current grounds to the common (-) terminals of the input capacitor.", 6 PGND (power) "Driver Power Ground. Connects to the source of bottom (synchronous) N-channel MOSFET, anode of the Schottky rectifier and the (-) terminal of CIN.", 7 BG (out) "High Current Gate Drive for Bottom (Synchronous) N-Channel MOSFET. Voltage swing at this pin is from ground to INTVCC.", 8 INTVCC (power) "Output of the Internal Linear Low Dropout Regulator. The driver and control circuits are powered from this voltage source. Must be decoupled to power ground with a minimum of 4.7uF tantalum or ceramic capacitor.", 9 VIN (power) "Main Supply Pin. A bypass capacitor should be tied between this pin and the signal ground pin.", 10 SW "Switch Node Connections to Inductor. Voltage swing at this pin is from a Schottky diode (external) voltage drop below ground to VIN.", 11 TG (out) "High Current Gate Drive for Top Nchannel MOSFET. These are the outputs of floating drivers with a voltage swing equal to INTVCC - 0.5V superimposed on the switch node voltage SW.", 12 BOOST "Bootstrapped Supply to the Top Side Floating Driver. A capacitor is connected between the BOOST and SW pins and a Schottky diode is tied between the BOOST and INTVCC pins. Voltage swing at the BOOST pin is from INTVCC to (See Datasheet)", 13 RUN (in) "Digital Run Control Input for Controller.", 14 SENSE- (in) "The (-) Input to the Differential Current Comparator.", 15 SENSE+ (in) "The (+) Input to the Differential Current Comparator. The ITH pin voltage and controlled offsets between the SENSE- and SENSE+ pins in conjunction with RSENSE set the current trip threshold.", 16 PLLIN/MODE (in) "External Synchronization Input to Phase Detector and Forced Continuous Control Input. When an external clock is applied to this pin, the phase-locked loop will force the rising TG signal to be synchronized with the rising (See Datasheet)", 17 EP (power) "SGND. Must be soldered to PCB."

## LTC3834IDHC-1#TRPBF
designator U?
30 uA IQ Synchronous Step-Down Controller, 16-pin SON (DHC-16), -40 to 85 degC, Pb-Free, Tape and Reel; Manufacturer: Linear Technology; PartNumber: LTC3834IDHC-1#TRPBF; Number of Outputs: 1; PackageReference: DHC-16; PackageDescription: 16-Pin Plastic DFN, Body 5 x 3 mm, Pitch 0.5 mm; Supplier 1: Digi-Key; Supplier Part Number 1: LTC3834IDHC-1#TRPBF-ND; RoHS: TRUE; Code_JEDEC: MO-229
footprint LT-DHC-16_V (SON, 16-Leads, Body 5x3mm, Pitch 0.5mm, Thermal Pad 4.4X1.65mm)
pins: 1 PLLLPF (in) "The phase-locked loop’s lowpass filter is tied to this pin when synchronizing to an external clock. Alternatively, tie this pin to GND, INTVCC or leave floating to select 250kHz, 530kHz or 400kHz switching frequency.", 2 ITH "Error Amplifier Outputs and Switching Regulator Compensation Points. The current comparator trip point increases with this control voltage.", 3 TRACK/SS (in) "External Tracking and Soft-Start Input.", 4 VFB (in) "Receives the remotely sensed feedback voltage from an external resistive divider across the output.", 5 SGND (power) "Small Signal Ground. Must be routed separately from high current grounds to the common (-) terminals of the input capacitor.", 6 PGND (power) "Driver Power Ground. Connects to the source of bottom (synchronous) N-channel MOSFET, anode of the Schottky rectifier and the (-) terminal of CIN.", 7 BG (out) "High Current Gate Drive for Bottom (Synchronous) N-Channel MOSFET. Voltage swing at this pin is from ground to INTVCC.", 8 INTVCC (power) "Output of the Internal Linear Low Dropout Regulator. The driver and control circuits are powered from this voltage source. Must be decoupled to power ground with a minimum of 4.7uF tantalum or ceramic capacitor.", 9 VIN (power) "Main Supply Pin. A bypass capacitor should be tied between this pin and the signal ground pin.", 10 SW "Switch Node Connections to Inductor. Voltage swing at this pin is from a Schottky diode (external) voltage drop below ground to VIN.", 11 TG (out) "High Current Gate Drive for Top Nchannel MOSFET. These are the outputs of floating drivers with a voltage swing equal to INTVCC - 0.5V superimposed on the switch node voltage SW.", 12 BOOST "Bootstrapped Supply to the Top Side Floating Driver. A capacitor is connected between the BOOST and SW pins and a Schottky diode is tied between the BOOST and INTVCC pins. Voltage swing at the BOOST pin is from INTVCC to (See Datasheet)", 13 RUN (in) "Digital Run Control Input for Controller.", 14 SENSE- (in) "The (-) Input to the Differential Current Comparator.", 15 SENSE+ (in) "The (+) Input to the Differential Current Comparator. The ITH pin voltage and controlled offsets between the SENSE- and SENSE+ pins in conjunction with RSENSE set the current trip threshold.", 16 PLLIN/MODE (in) "External Synchronization Input to Phase Detector and Forced Continuous Control Input. When an external clock is applied to this pin, the phase-locked loop will force the rising TG signal to be synchronized with the rising (See Datasheet)", 17 EP (power) "SGND. Must be soldered to PCB."